# Altium footprint library MCU.PcbLib: 63 footprints (part 1 of 4)
Each footprint in its own frame and in the unit in brackets; x right, y up, seen from the top. Pads: shape width x height; smd on the part's side, far side on the other; paste and mask are expansions set on the pad; w line width, h text height; cw(c..) or ccw(c..) is an arc to the next point about the centre after c.
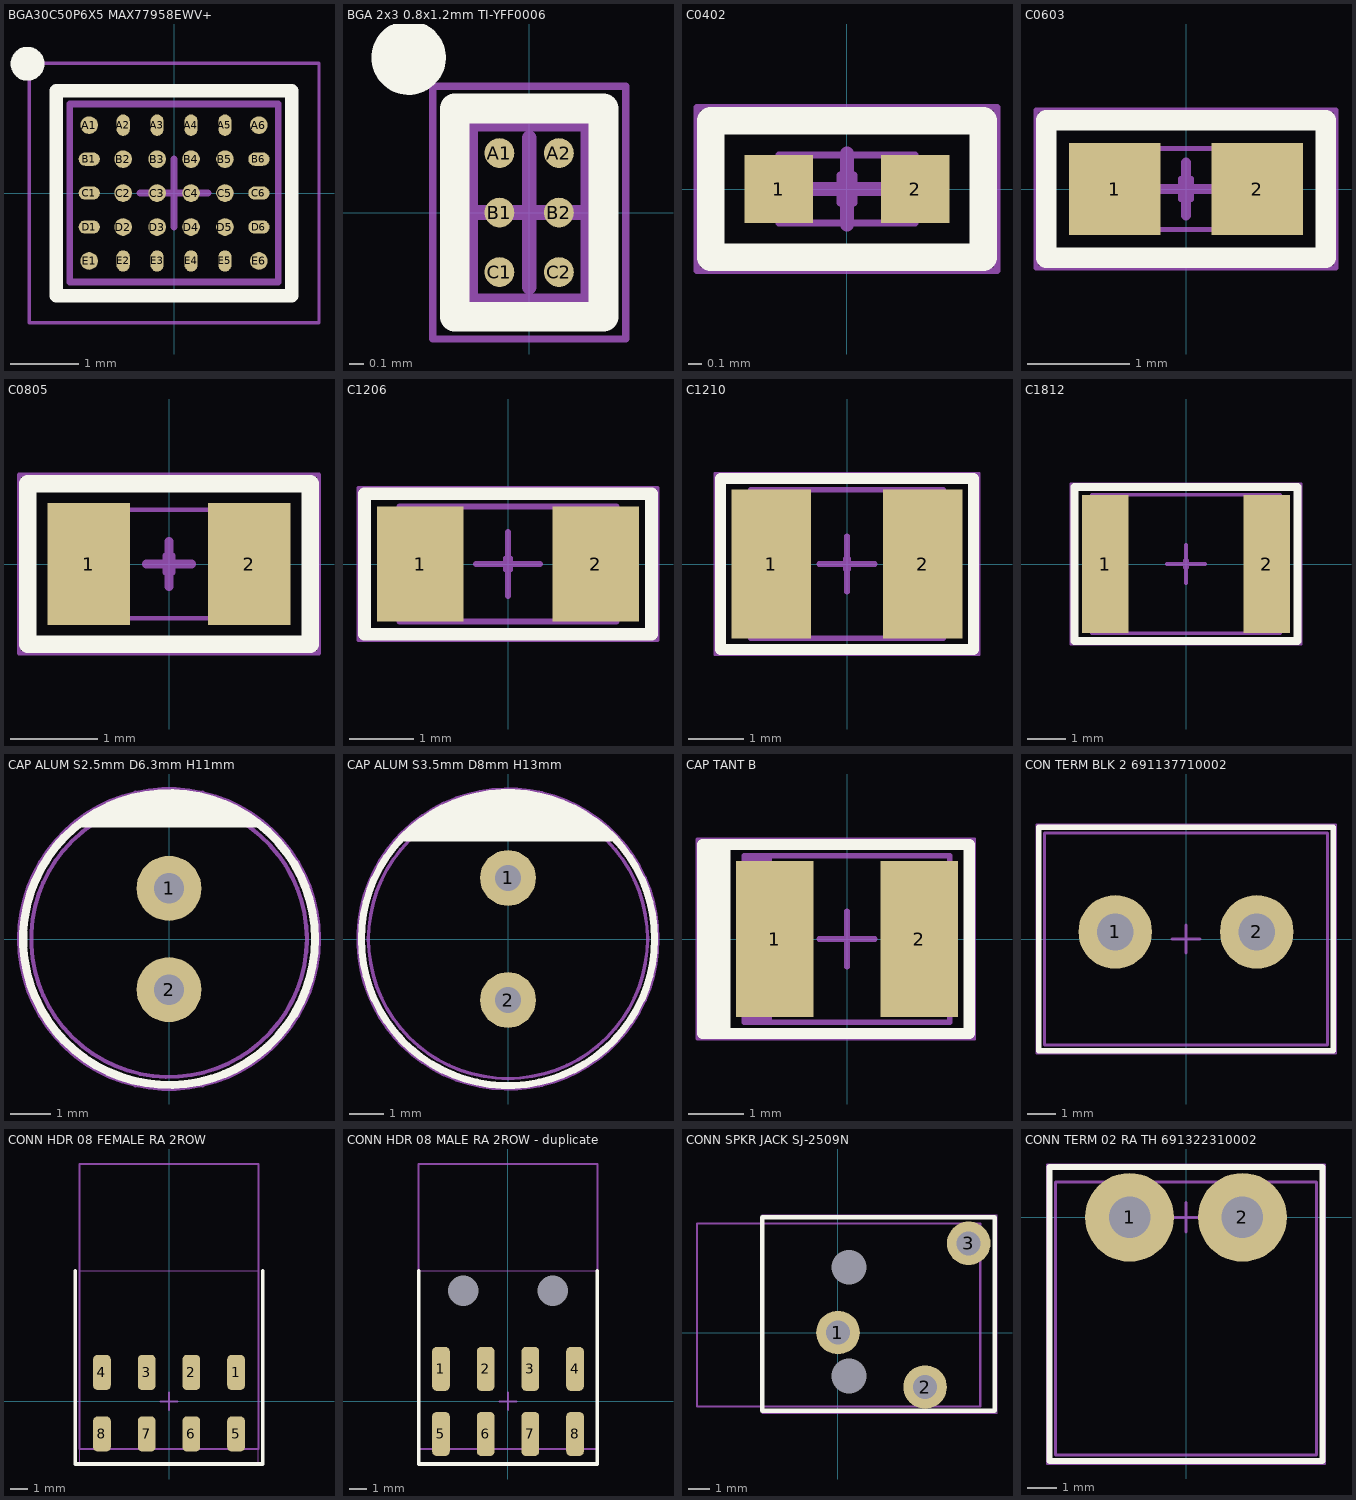
[diagram p0: the footprints below, top view; thin cyan lines are the x and y axes]

## BGA30C50P6X5 MAX77958EWV+ [mm] "BGA, 30-Leads, Body 3.07x2.62mmx0.69mm, Pitch 0.50mm"
height 0.69
pads (30):
  round 0.26 smd: A1(-1.25,1) A6(1.25,1) B2(-0.75,0.5) B3(-0.25,0.5) B4(0.25,0.5) B5(0.75,0.5) C2(-0.75,0) C3(-0.25,0) C4(0.25,0) C5(0.75,0) D2(-0.75,-0.5) D3(-0.25,-0.5) D4(0.25,-0.5) D5(0.75,-0.5) E1(-1.25,-1) E6(1.25,-1)
  oval 0.195x0.314 smd: A2(-0.75,1) A3(-0.25,1) A4(0.25,1) A5(0.75,1) E2(-0.75,-1) E3(-0.25,-1) E4(0.25,-1) E5(0.75,-1)
  oval 0.314x0.195 smd: B1(-1.25,0.5) B6(1.25,0.5) C1(-1.25,0) C6(1.25,0) D1(-1.25,-0.5) D6(1.25,-0.5)
Top Layer:
  lines w0.102: 0.25,0.5 0.25,0.504
Top Overlay:
  circle w0.25: c-2.159,1.905 r0.125
  lines w0.2: -1.735,-1.51 -1.535,-1.51 1.735,-1.51 1.735,1.31 1.735,1.51 1.535,1.51 -1.735,1.51 -1.735,-1.31 -1.735,-1.51
Mechanical 13:
  lines w0.1: -1.535,-1.31 -1.535,1.31 1.535,1.31 1.535,-1.31 -1.535,-1.31
Mechanical 15:
  lines w0.05: -2.135,-1.91 -2.135,1.91 2.135,1.91 2.135,-1.91 -2.135,-1.91
  lines w0.1: -0.5,0 0.5,0 ; 0,-0.5 0,0.5
3D body "BGA30C50P6X5 MAX77958EWV+.step": height 0.69, standoff 0, extent -1.535,-1.31 1.535,1.31

## BGA 2x3 0.8x1.2mm TI-YFF0006 [mm] "BGA, 6-Leads, Body 0.79x1.19mmx0.63mm, Pitch 0.40mm"
height 0.63
pads (6):
  round 0.2 smd: A1(-0.2,0.4) A2(0.2,0.4) B1(-0.2,0) B2(0.2,0) C1(-0.2,-0.4) C2(0.2,-0.4)
Top Overlay:
  circle w0.25: c-0.81,1.042 r0.125
  lines w0.2: -0.5,-0.7 -0.5,0.7 0.5,0.7 0.5,-0.7 -0.5,-0.7
Top Assembly:
  lines w0.1: -0.395,-0.595 0.395,-0.595 0.395,0.595 -0.395,0.595 -0.395,-0.595
Top Courtyard:
  lines w0.05: -0.65,-0.85 0.65,-0.85 0.65,0.85 -0.65,0.85 -0.65,-0.85
  lines w0.1: -0.5,0 0.5,0 ; 0,-0.5 0,0.5
3D body "BGA 2x3 0.8x1.2mm TI-YFF0006.step": height 0.63, standoff 0, extent -0.395,-0.595 0.395,0.595

## C0402 [mm]
pads (2):
  rect 0.5x0.5 smd: 1(-0.5,0) 2(0.5,0)
Top Overlay:
  lines w0.2: -1,-0.5 -1,0 -1,0.5 1,0.5 1,-0.5 -1,-0.5
Mechanical 13:
  lines w0.05: -0.255,0 -0.052,0 ; -0.052,-0.102 -0.052,0.102 ; 0.052,-0.102 0.052,0.102 ; 0.052,0 0.255,0 ; -0.5,-0.25 -0.5,0.25 0.5,0.25 0.5,-0.25 -0.5,-0.25
Mechanical 15:
  lines w0.05: -1.1,-0.6 -1.1,0.6 1.1,0.6 1.1,-0.6 -1.1,-0.6
  lines w0.1: -0.26,0 0.26,0 ; 0,-0.26 0,0.26
3D body "User Library-SMD CAPACITOR.step": height 0.51, standoff 0.01, extent -0.5,-0.25 0.5,0.25

## C0603 [mm]
pads (2):
  rect 0.9x0.9 smd: 1(-0.7,0) 2(0.7,0)
Top Overlay:
  lines w0.2: -1.375,-0.675 1.375,-0.675 1.375,0.675 -1.375,0.675 -1.375,0.175 -1.375,-0.675
Mechanical 13:
  lines w0.05: -0.255,0 -0.052,0 ; -0.052,-0.102 -0.052,0.102 ; 0.052,-0.102 0.052,0.102 ; 0.052,0 0.255,0 ; -0.8,-0.4 -0.8,0.4 0.8,0.4 0.8,-0.4 -0.8,-0.4
Mechanical 15:
  lines w0.05: -1.475,-0.775 1.475,-0.775 1.475,0.775 -1.475,0.775 -1.475,-0.775
  lines w0.1: -0.26,0 0.26,0 ; 0,-0.26 0,0.26
3D body "User Library-SMD CAPACITOR (1).step": height 0.81, standoff 0.01, extent -0.8,-0.4 0.8,0.4

## C0805 [mm]
pads (2):
  rect 0.95x1.4 smd: 1(-0.925,0) 2(0.925,0)
Top Overlay:
  lines w0.2: -1.625,-0.925 1.625,-0.925 1.625,0.925 -1.625,0.925 -1.625,-0.425 -1.625,-0.925
Mechanical 13:
  lines w0.05: -0.255,0 -0.052,0 ; -0.052,-0.102 -0.052,0.102 ; 0.052,-0.102 0.052,0.102 ; 0.052,0 0.255,0 ; -1,-0.625 1,-0.625 1,0.625 -1,0.625 -1,-0.625
Mechanical 15:
  lines w0.05: -1.725,-1.025 -1.725,1.025 1.725,1.025 1.725,-1.025 -1.725,-1.025
  lines w0.1: -0.26,0 0.26,0 ; 0,-0.26 0,0.26
3D body "User Library-SMD CAPACITOR (2).step": height 0.61, standoff 0.01, extent -1,-0.625 1,0.625

## C1206 [mm] "Chip Capacitor, 2-Leads, Body 3.20x1.60mm, IPC Medium Density"
height 1.8
pads (2):
  rect 1.35x1.8 smd: 1(-1.375,0) 2(1.375,0)
Top Overlay:
  lines w0.2: -2.25,-1.1 2.25,-1.1 2.25,1.1 -2.25,1.1 -2.25,-1.1
Mechanical 13:
  lines w0.05: -0.255,0 -0.052,0 ; -0.052,-0.102 -0.052,0.102 ; 0.052,-0.102 0.052,0.102 ; 0.052,0 0.255,0
  lines w0.1: -1.7,-0.9 1.7,-0.9 1.7,0.9 -1.7,0.9 -1.7,-0.9
Mechanical 15:
  lines w0.05: -2.35,-1.2 2.35,-1.2 2.35,1.2 -2.35,1.2 -2.35,-1.2
  lines w0.1: -0.5,0 0.5,0 ; 0,-0.5 0,0.5
3D body "CAPCP3216X18N.step": height 1.8, standoff 0, extent -1.7,-0.9 1.7,0.9

## C1210 [mm] "Chip Capacitor, 2-Leads, Body 3.20x2.50mm, IPC Medium Density"
height 2.7
pads (2):
  rect 1.45x2.7 smd: 1(-1.375,0) 2(1.375,0)
Top Overlay:
  lines w0.2: -2.3,-1.55 -2.3,1.55 2.3,1.55 2.3,-1.55 -2.3,-1.55
Mechanical 13:
  lines w0.05: -0.255,0 -0.052,0 ; -0.052,-0.102 -0.052,0.102 ; 0.052,-0.102 0.052,0.102 ; 0.052,0 0.255,0
  lines w0.1: -1.75,-1.35 1.75,-1.35 1.75,1.35 -1.75,1.35 -1.75,-1.35
Mechanical 15:
  lines w0.05: -2.4,-1.65 2.4,-1.65 2.4,1.65 -2.4,1.65 -2.4,-1.65
  lines w0.1: -0.5,0 0.5,0 ; 0,-0.5 0,0.5
3D body "CAPCP3225X27N.step": height 2.7, standoff 0, extent -1.75,-1.35 1.75,1.35

## C1812 [mm] "Chip Capacitor, 2-Leads, Body 4.50x3.20mm, IPC Medium Density"
height 2.8
pads (2):
  rect 1.2x3.6 smd: 1(-2.1,0) 2(2.1,0)
Top Overlay:
  lines w0.2: -2.9,-2 2.9,-2 2.9,2 -2.9,2 -2.9,-2
Mechanical 13:
  lines w0.05: -0.255,0 -0.052,0 ; -0.052,-0.102 -0.052,0.102 ; 0.052,-0.102 0.052,0.102 ; 0.052,0 0.255,0
  lines w0.1: -2.45,-1.8 2.45,-1.8 2.45,1.8 -2.45,1.8 -2.45,-1.8
Mechanical 15:
  lines w0.05: -3,-2.1 3,-2.1 3,2.1 -3,2.1 -3,-2.1
  lines w0.1: -0.5,0 0.5,0 ; 0,-0.5 0,0.5
3D body "C1812.step": height 2.8, standoff 0, extent -2.45,-1.8 2.45,1.8

## CAP ALUM S2.5mm D6.3mm H11mm [mm]
pads (2):
  round 1.6 hole 0.75: 1(0,1.25) 2(0,-1.25)
Top Overlay:
  circle w0.2: c0,0 r3.6
  region: -2.253,2.757 2.375,2.757 2.214,2.892 1.864,3.122 1.489,3.311 1.095,3.454 0.687,3.551 0.27,3.599 -0.149,3.599 -0.565,3.551 -0.973,3.454 -1.368,3.311 -1.742,3.122 -2.093,2.892
Mechanical 13:
  circle w0.1: c0,0 r3.4
Mechanical 15:
  circle w0.1: c0,0 r3.7
3D body "PCAP_63x112_PAN.step": height 11.22, standoff -4.67, extent -3.143,-3.177 3.175,3.177

## CAP ALUM S3.5mm D8mm H13mm [mm]
pads (2):
  round 1.6 hole 0.75: 1(0,1.75) 2(0,-1.75)
Top Overlay:
  circle w0.2: c0,0 r4.2
  region: -3.122,2.802 -2.926,3.02 -2.476,3.399 -1.978,3.711 -1.442,3.95 -0.877,4.113 -0.295,4.195 0.293,4.195 0.875,4.113 1.44,3.951 1.976,3.712 2.474,3.4 2.924,3.022 3.121,2.803 3.119,2.802
Mechanical 13:
  circle w0.1: c0,0 r4
Mechanical 15:
  circle w0.1: c0,0 r4.3
3D body "CAP_YX_8X11P5_RUB.step": height 13.02, standoff -4.37, extent -4.255,-4.254 4.255,4.281

## CAP TANT B [mm] "Molded Capacitor, 2-Leads, Body 3.50x2.85mm, IPC Medium Density"
height 2.1
pads (2):
  rect 1.4x2.8 smd: 1(-1.3,0) 2(1.3,0)
Top Overlay:
  lines w0.2: -2.4,-1.7 -2.2,-1.7 ; -2.4,-1.7 -2.6,-1.7 -2.6,1.7 -2.4,1.7 ; -2.4,-1.7 -2.4,1.7 ; -2.4,1.7 -2.2,1.7 ; -2.2,-1.7 2.2,-1.7 2.2,1.7 -2.2,1.7 ; -2.2,-1.7 -2.2,1.7
Mechanical 13:
  rectangle: -1.85,-1.5 -1.352,1.5
  lines w0.1: -1.85,-1.5 1.85,-1.5 1.85,1.5 -1.85,1.5 -1.85,-1.5
Mechanical 15:
  lines w0.05: -2.7,-1.8 2.3,-1.8 2.3,1.8 -2.7,1.8 -2.7,-1.8
  lines w0.1: -0.5,0 0.5,0 ; 0,-0.5 0,0.5
3D body "User Library-CaseB_3528-21.step": height 1.9, standoff 0, extent -1.75,-1.4 1.75,1.4

## CON TERM BLK 2 691137710002 [mm]
pads (2):
  round 2.6 hole 1.3: 1(-2.5,0.25) 2(2.5,0.25)
Top Overlay:
  lines w0.2: -5.2,-3.95 -5.2,3.95 5.2,3.95 5.2,-3.95 -5.2,-3.95
Mechanical 13:
  lines w0.1: -5,-3.75 5,-3.75 5,3.75 -5,3.75 -5,-3.75
Mechanical 15:
  lines w0.05: -5.3,-4.05 5.3,-4.05 5.3,4.05 -5.3,4.05 -5.3,-4.05
  lines w0.1: -0.5,0 0.5,0 ; 0,-0.5 0,0.5
3D body "691137710002 (rev1).stp": height 11.5, standoff -3.6, extent -5,-3.75 5,3.75

## CONN HDR 08 FEMALE RA 2ROW [mm]
height 1.45
pads (8):
  rrect50% 1x2 smd: 1(3.81,1.649) 2(1.27,1.649) 3(-1.27,1.649) 4(-3.81,1.649) 5(3.81,-1.849) 6(1.27,-1.849) 7(-1.27,-1.849) 8(-3.81,-1.849)
Top Overlay:
  lines w0.2: -5.334,7.414 -5.334,-3.556 5.334,-3.556 5.334,7.414
Top Assembly:
  lines w0.1: -5.08,-2.705 5.08,-2.705 5.08,13.493 -5.08,13.493 -5.08,-2.705
Top Courtyard:
  lines w0.05: -5.08,-3.556 5.08,-3.556 5.08,7.414 -5.08,7.414 -5.08,-3.556
  lines w0.1: -0.5,0 0.5,0 ; 0,-0.5 0,0.5
3D body "m20-7920442_asm.stp": height 5.01, standoff 0.01, extent -5.205,-2.506 5.205,12.894

## CONN HDR 08 MALE RA 2ROW - duplicate [mm]
height 1.45
pads (10):
  round 0 hole 1.73 unplated: 0(-2.54,6.299) 0(2.54,6.299)
  rrect50% 1x2.5 smd: 1(-3.81,1.849) 2(-1.27,1.849) 3(1.27,1.849) 4(3.81,1.849) 5(-3.81,-1.849) 6(-1.27,-1.849) 7(1.27,-1.849) 8(3.81,-1.849)
Top Overlay:
  lines w0.2: -5.08,7.414 -5.08,-3.556 5.08,-3.556 5.08,7.414
Top Assembly:
  lines w0.1: -5.08,-2.705 -5.08,13.493 5.08,13.493 5.08,-2.705 -5.08,-2.705
Top Courtyard:
  lines w0.05: -5.08,-3.556 -5.08,7.414 5.08,7.414 5.08,-3.556 -5.08,-3.556
  lines w0.1: -0.5,0 0.5,0 ; 0,-0.5 0,0.5
3D body "610108249121_Download_STP_610108249121_rev1.stp": height 5.09, standoff -1.39, extent -5.08,-2.667 5.08,13.493

## CONN SPKR JACK SJ-2509N [mm]
pads (5):
  round 2 hole 1.1: 1(0,0) 2(4,-2.5) 3(6,4.1)
  round 0 hole 1.6 unplated: 4(0.5,-2) 5(0.5,3)
Top Overlay:
  lines w0.2: -3.471,-3.593 7.2,-3.593 7.2,5.3 -3.471,5.3 -3.471,-3.593
Mechanical 13:
  lines w0.1: -6.471,-3.393 6.529,-3.393 6.529,5.008 -6.471,5.008 -6.471,-3.393
Mechanical 15:
  lines w0.05: -3.471,-3.693 7.3,-3.693 7.3,5.4 -3.471,5.4 -3.471,-3.693
3D body "CUI_DEVICES_SJ-2509N.step": height 5.02, standoff -2.18, extent -6.471,-3.393 6.529,5.008

## CONN TERM 02 RA TH 691322310002 [mm]
pads (2):
  round 3 hole 1.4: 1(-1.905,0) 2(1.905,0)
Top Overlay:
  lines w0.2: -4.605,-8.229 -4.605,-8.029 -4.605,1.7 -1.905,1.7 4.605,1.7 4.605,1.171 4.605,-8.229 -4.405,-8.229 -4.605,-8.229
Mechanical 13:
  lines w0.1: -4.405,-8.029 4.405,-8.029 4.405,1.2 -4.405,1.2 -4.405,-8.029
Mechanical 15:
  lines w0.05: -4.705,-8.329 4.705,-8.329 4.705,1.8 -4.705,1.8 -4.705,-8.329
  lines w0.1: -0.5,0 0.5,0 ; 0,-0.5 0,0.5
3D body "691322310002 (rev1).stp": height 7.21, standoff -3.49, extent -4.405,-8.029 4.405,1.171